# EAGLE library part SINGLE_OPAMP (library ICs)
GENERIC SINGLE OPAMP
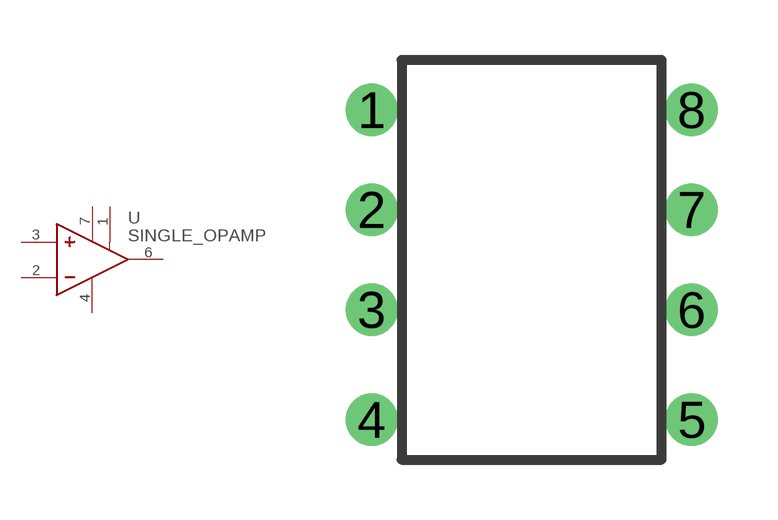
[diagram p73: symbol with the pads of DIP8; footprint DIP8]

Designator prefix U

## SINGLE_OPAMP (FARNELL: NONE)  [DIP8]
1  SF
2  -
3  +
4  V-
6  OUT
7  V+

## Footprint DIP8 (pad centres in mm)
drill 0.8: 1 -4,3.75; 2 -4,1.25; 3 -4,-1.25; 4 -4,-4; 5 4,-4; 6 4,-1.25; 7 4,1.25; 8 4,3.75